# Altium schematic symbol library Connectors.SchLib: 31 symbols
Pins are listed as number, name and electrical type; pins without a type are passive.

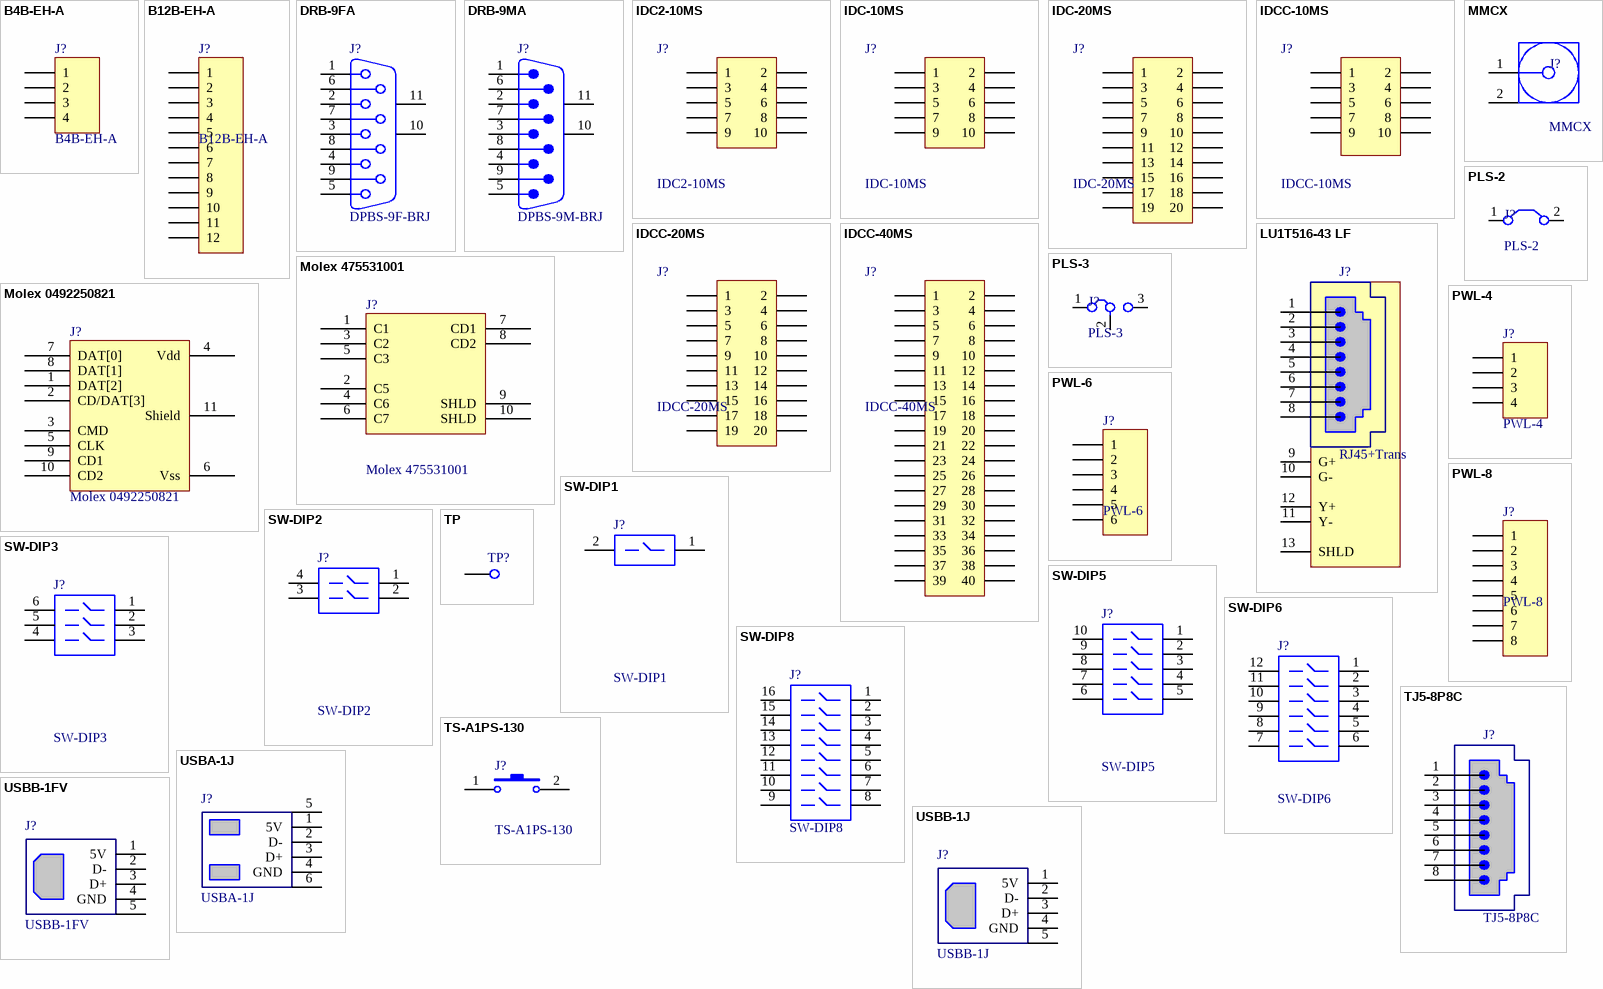
[diagram p0: symbols B4B-EH-A to USBB-1J]

## B4B-EH-A
designator J?
Вилка прямая на плату B4B-EH-A, прямая; Name: Вилка прямая на плату B4B-EH-A, прямая
footprint B4B-EH-A
pins: 1, 2, 3, 4

## B12B-EH-A
designator J?
Вилка прямая на плату B12B-EH-A, прямая; Name: Вилка прямая на плату B12B-EH-A, прямая
footprint B12B-EH-A
pins: 1, 2, 3, 4, 5, 6, 7, 8, 9, 10, 11, 12

## DRB-9FA
designator J?, comment DPBS-9F-BRJ
Гнездо на плату DPBS-9F-BRJ; Name: Гнездо на плату DPBS-9F-BRJ
footprint DPBS-9F-BRJ
pins: 1, 2, 3, 4, 5, 6, 7, 8, 9, 10 MH1, 11 MH2

## DRB-9MA
designator J?, comment DPBS-9M-BRJ
Вилка на плату DPBS-9M-BRJ; Name: Вилка на плату DPBS-9M-BRJ
footprint DPBS-9M-BRJ
pins: 1, 2, 3, 4, 5, 6, 7, 8, 9, 10 MH1, 11 MH2

## IDC2-10MS
designator J?
Вилка на плату IDC2-10MS, прямая; Name: Вилка на плату IDC2-10MS, прямая
footprint IDC2-10MS
pins: 1, 2, 3, 4, 5, 6, 7, 8, 9, 10

## IDC-10MS
designator J?
Вилка на плату IDC-10MS, прямая; Name: Вилка на плату IDC-10MS, прямая
footprint IDC-10MS
pins: 1, 2, 3, 4, 5, 6, 7, 8, 9, 10

## IDC-20MS
designator J?
Вилка на плату IDC-20MS, прямая; Name: Вилка на плату IDC-20MS, прямая
footprint IDC-20MS
pins: 1, 2, 3, 4, 5, 6, 7, 8, 9, 10, 11, 12, 13, 14, 15, 16, 17, 18, 19, 20

## IDCC-10MS
designator J?
Вилка на плату IDCC-10MS, прямая с фиксацией; Name: Вилка на плату IDCC-10MS, прямая с фиксацией
footprint IDCC-10MS
pins: 1, 2, 3, 4, 5, 6, 7, 8, 9, 10

## IDCC-20MS
designator J?
Вилка на плату IDCC-20MS, прямая с фиксацией; Name: Вилка на плату IDCC-20MS, прямая с фиксацией
footprint IDCC-20MS
pins: 1, 2, 3, 4, 5, 6, 7, 8, 9, 10, 11, 12, 13, 14, 15, 16, 17, 18, 19, 20

## IDCC-40MS
designator J?
Вилка на плату IDCC-40MS, прямая с фиксацией; Name: Вилка на плату IDCC-40MS, прямая с фиксацией
footprint IDCC-40MS
pins: 1, 2, 3, 4, 5, 6, 7, 8, 9, 10, 11, 12, 13, 14, 15, 16, 17, 18, 19, 20, 21, 22, 23, 24, 25, 26, 27, 28, 29, 30, 31, 32, 33, 34, 35, 36, 37, 38, 39, 40

## LU1T516-43 LF
designator J?, comment RJ45+Trans
Розетка RJ45 с трансформатором на плату угловая; Name: LU1T516-43 LF
footprint LU1T516-43 LF
pins: 1, 2, 3, 4, 5, 6, 7, 8, 9 G+, 10 G-, 11 Y-, 12 Y+, 13 SHLD

## MMCX
designator J?
Гнездо на плату MMCX, прямое; Name: Гнездо на плату MMCX, прямое
footprint MMCX
pins: 1 RF "Signal Pin", 2 GND (power)

## Molex 475531001
designator J?
Держатель для SIM-карт Molex 0475531001; Name: Держатель для SIM-карт Molex 0475531001
footprint MOLEX_475531001
pins: 1 C1, 2 C5, 3 C2, 4 C6, 5 C3, 6 C7, 7 CD1, 8 CD2, 9 SHLD, 10 SHLD

## Molex 0492250821
designator J?
Держатель для карт SD I/O Molex 0492250821; Name: Держатель для карт SD I/O Molex 0492250821
footprint MOLEX_492250821
pins: 1 DAT[2], 2 CD/DAT[3], 3 CMD, 4 Vdd, 5 CLK, 6 Vss, 7 DAT[0], 8 DAT[1], 9 CD1, 10 CD2, 11 Shield (power)

## PLS-2
designator J?
Вилка штыревая PLS-2, прямая; Name: Вилка штыревая PLS-2, прямая
footprint PLS-2
pins: 1, 2

## PLS-3
designator J?
Вилка штыревая PLS-3, прямая; Name: Вилка штыревая PLS-3, прямая
footprint PLS-3
pins: 1, 2, 3

## PWL-4
designator J?
Вилка на плату PWL-4, прямая; Name: Вилка на плату PWL-4, прямая
footprint PWL-4
pins: 1, 2, 3, 4

## PWL-6
designator J?
Вилка на плату PWL-6, прямая; Name: Вилка на плату PWL-6, прямая
footprint PWL-6
pins: 1, 2, 3, 4, 5, 6

## PWL-8
designator J?
Вилка на плату PWL-8, прямая; Name: Вилка на плату PWL-8, прямая
footprint PWL-8
pins: 1, 2, 3, 4, 5, 6, 7, 8

## SW-DIP1
designator J?
DIP переключатель SWD1-1; Name: DIP переключатель SWD1-1
footprint SWD1-1
pins: 1, 2

## SW-DIP2
designator J?
DIP переключатель SWD1-2; Name: DIP переключатель SWD1-2
footprint SWD1-2
pins: 1, 2, 3, 4

## SW-DIP3
designator J?
DIP переключатель SWD1-3; Name: DIP переключатель SWD1-3
footprint SWD1-3
pins: 1, 2, 3, 4, 5, 6

## SW-DIP5
designator J?
DIP переключатель SWD1-5; Name: DIP переключатель SWD1-5
footprint SWD1-5
pins: 1, 2, 3, 4, 5, 6, 7, 8, 9, 10

## SW-DIP6
designator J?
DIP переключатель SWD1-6; Name: DIP переключатель SWD1-6
footprint SWD1-6
pins: 1, 2, 3, 4, 5, 6, 7, 8, 9, 10, 11, 12

## SW-DIP8
designator J?
DIP переключатель SWD1-8; Name: DIP переключатель SWD1-8
footprint SWD1-8
pins: 1, 2, 3, 4, 5, 6, 7, 8, 9, 10, 11, 12, 13, 14, 15, 16

## TJ5-8P8C
designator J?
Гнездо на плату RJ45, тип 5 (TJ5-8P8C); Name: Гнездо на плату RJ45, тип 5 (TJ5-8P8C)
footprint MOLEX_424108312
pins: 1, 2, 3, 4, 5, 6, 7, 8

## TP
designator TP?, comment TestPoint  (value not drawn)
Name: TestPoint
footprint TP
pins: 0

## TS-A1PS-130
designator J?
Кнопка тактовая TS-A1PS-130; Name: Кнопка тактовая TS-A1PS-130
footprint TS-A1PS-130
pins: 1 COMMON1, 2 NO1

## USBA-1J
designator J?
Розетка угловая на плату, тип А; Name: Розетка угловая на плату USBA-1J, тип А
footprint USBA-1J
pins: 1 5V (power), 2 D-, 3 D+, 4 GND (power), 5 Shield (power), 6 Shield (power)

## USBB-1FV
designator J?
Розетка вертикальная на плату, тип B; Name: Розетка вертикальная на плату, тип B
footprint USBB-1FV
pins: 1 5V (power), 2 D-, 3 D+, 4 GND (power), 5 Shield (power)

## USBB-1J
designator J?
Розетка угловая на плату, тип B; Name: Розетка угловая на плату USBB-1J, тип B
footprint USBB-1J
pins: 1 5V (power), 2 D-, 3 D+, 4 GND (power), 5 Shield (power)